# Altium integrated library Zarlink Comm DTMF Receiver.IntLib: 35 symbols
Pins are listed as number, name and electrical type; pins without a type are passive.

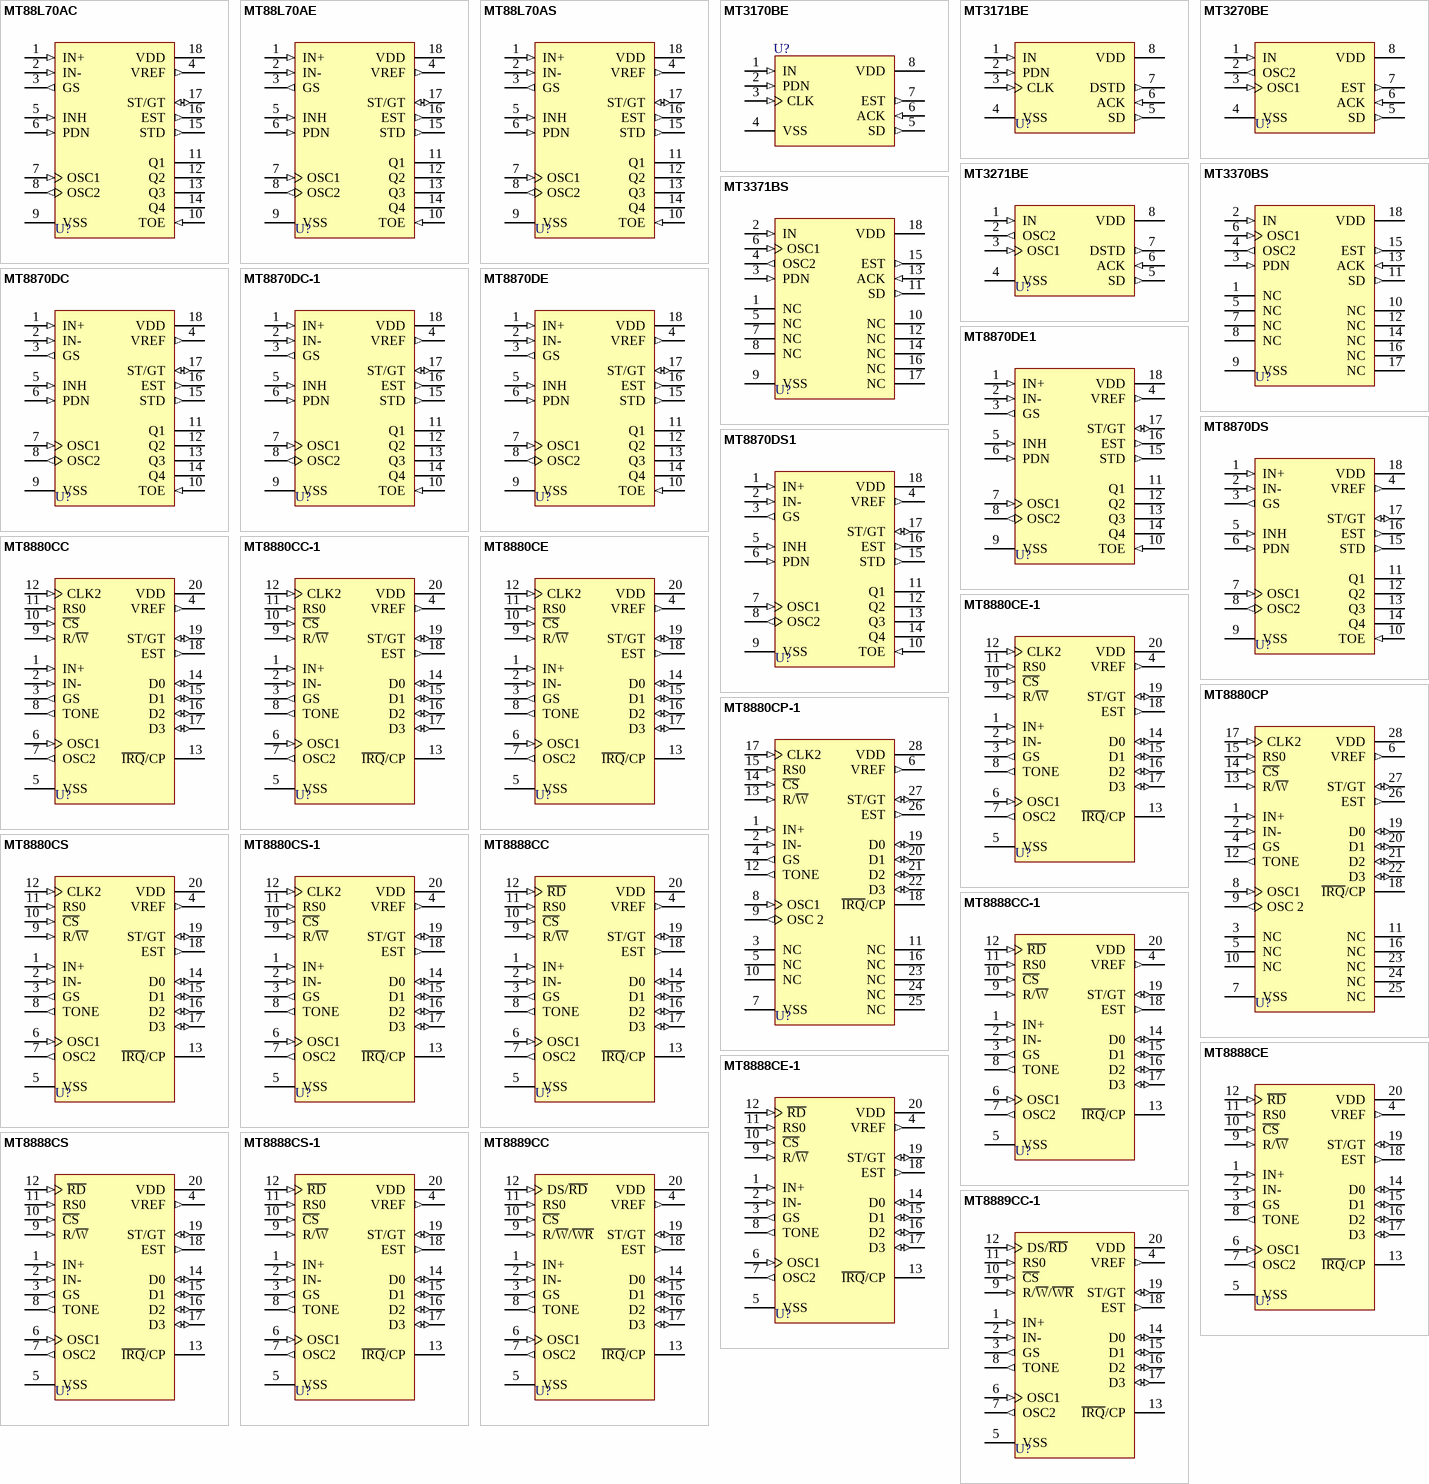
[diagram p0: symbols MT88L70AC to MT8889CC-1]

## MT88L70AC
designator U?
3 Volt Integrated DTMF Receiver; Published: 8-Jun-2000; LatestRevisionDate: 17-Jul-2002; LatestRevisionNote: Re-released for DXP Platform.; DatasheetVersion: Issue 3 August 1996; PackageVersion: 1995; PackageReference: CDIP18; Publisher: Altium Limited; PackageDescription: DIP; 18 Leads; Row Spacing 7.62 mm; Pitch 2.54 mm; ComponentLink1Description: Manufacturer Link; ComponentLink1URL: http://products.zarlink.com; ComponentLink2Description: Datasheet; ComponentLink2URL: http://assets.zarlink.com/DS/zarlink_MT88L70_MAY_05.pdf
footprint CDIP18 (DIP; 18 Leads; Row Spacing 7.62 mm; Pitch 2.54 mm)
pins: 1 IN+ (in), 2 IN- (in), 3 GS (out), 4 VREF (out), 5 INH (in), 6 PDN (in), 7 OSC1 (in), 8 OSC2 (out), 9 VSS (power), 10 TOE (in), 11 Q1 (hiz), 12 Q2 (hiz), 13 Q3 (hiz), 14 Q4 (hiz), 15 STD (out), 16 EST (out), 17 ST/GT (io), 18 VDD (power)

## MT88L70AE
designator U?
3 Volt Integrated DTMF Receiver; Published: 8-Jun-2000; LatestRevisionDate: 17-Jul-2002; LatestRevisionNote: Re-released for DXP Platform.; DatasheetVersion: Issue 4 March 1997; PackageVersion: 1997; PackageReference: PDIP18; Publisher: Altium Limited; PackageDescription: DIP; 18 Leads; Row Spacing 7.62 mm; Pitch 2.54 mm; ComponentLink1Description: Manufacturer Link; ComponentLink1URL: http://products.zarlink.com; ComponentLink2Description: Datasheet; ComponentLink2URL: http://assets.zarlink.com/DS/zarlink_MT88L70_MAY_05.pdf
footprint PDIP18 (DIP; 18 Leads; Row Spacing 7.62 mm; Pitch 2.54 mm)
pins: 1 IN+ (in), 2 IN- (in), 3 GS (out), 4 VREF (out), 5 INH (in), 6 PDN (in), 7 OSC1 (in), 8 OSC2 (out), 9 VSS (power), 10 TOE (in), 11 Q1 (hiz), 12 Q2 (hiz), 13 Q3 (hiz), 14 Q4 (hiz), 15 STD (out), 16 EST (out), 17 ST/GT (io), 18 VDD (power)

## MT88L70AS
designator U?
3 Volt Integrated DTMF Receiver; Published: 8-Jun-2000; LatestRevisionDate: 13-Apr-2006; LatestRevisionNote: IPC-7351 Footprint Added.; DatasheetVersion: Issue 4 March 1997; PackageVersion: 1997; PackageReference: SOIC18; Publisher: Altium Limited; PackageDescription: 18-Pin Small Outline Integrated Circuit 1.27 mm Pitch; Code_JEDEC: MS-013-AB; ComponentLink1Description: Manufacturer Link; ComponentLink1URL: http://products.zarlink.com; ComponentLink2Description: Datasheet; ComponentLink2URL: http://assets.zarlink.com/DS/zarlink_MT88L70_MAY_05.pdf
footprint SOIC18_N (SOIC, 18-Leads, Body 11.6x7.6mm, Pitch 1.27mm, IPC Medium Density)
footprint SOIC18_L (SOIC, 18-Leads, Body 11.6x7.6mm, Pitch 1.27mm, IPC High Density)
footprint SOIC18_M (SOIC, 18-Leads, Body 11.6x7.6mm, Pitch 1.27mm, IPC Low Density)
pins: 1 IN+ (in), 2 IN- (in), 3 GS (out), 4 VREF (out), 5 INH (in), 6 PDN (in), 7 OSC1 (in), 8 OSC2 (out), 9 VSS (power), 10 TOE (in), 11 Q1 (hiz), 12 Q2 (hiz), 13 Q3 (hiz), 14 Q4 (hiz), 15 STD (out), 16 EST (out), 17 ST/GT (io), 18 VDD (power)

## MT3170BE
designator U?
Wide Dynamic Range DTMF Receiver; Published: 8-Jun-2000; LatestRevisionDate: 17-Jul-2002; LatestRevisionNote: Re-released for DXP Platform.; DatasheetVersion: Issue 2 May 1995; PackageVersion: 1997; PackageReference: PDIP8; Publisher: Altium Limited; PackageDescription: DIP; 8 Leads; Row Spacing 7.62 mm; Pitch 2.54 mm; Code_JEDEC: MO-001-AN; ComponentLink1Description: Manufacturer Link; ComponentLink1URL: http://products.zarlink.com; ComponentLink2Description: Datasheet; ComponentLink2URL: http://assets.zarlink.com/DS/zarlink_MT3371B_JUN_05.pdf
footprint PDIP8 (DIP; 8 Leads; Row Spacing 7.62 mm; Pitch 2.54 mm)
pins: 1 IN (in), 2 PDN (in), 3 CLK (in), 4 VSS (power), 5 SD (out), 6 ACK (in), 7 EST (out), 8 VDD (power)

## MT3171BE
designator U?
Wide Dynamic Range DTMF Receiver; Published: 8-Jun-2000; LatestRevisionDate: 17-Jul-2002; LatestRevisionNote: Re-released for DXP Platform.; DatasheetVersion: Issue 2 May 1995; PackageVersion: 1997; PackageReference: PDIP8; Publisher: Altium Limited; PackageDescription: DIP; 8 Leads; Row Spacing 7.62 mm; Pitch 2.54 mm; Code_JEDEC: MO-001-AN; ComponentLink1Description: Manufacturer Link; ComponentLink1URL: http://products.zarlink.com; ComponentLink2Description: Datasheet; ComponentLink2URL: http://assets.zarlink.com/DS/zarlink_MT3371B_JUN_05.pdf
footprint PDIP8 (DIP; 8 Leads; Row Spacing 7.62 mm; Pitch 2.54 mm)
pins: 1 IN (in), 2 PDN (in), 3 CLK (in), 4 VSS (power), 5 SD (out), 6 ACK (in), 7 DSTD (out), 8 VDD (power)

## MT3270BE
designator U?
Wide Dynamic Range DTMF Receiver; Published: 8-Jun-2000; LatestRevisionDate: 17-Jul-2002; LatestRevisionNote: Re-released for DXP Platform.; DatasheetVersion: Issue 2 May 1995; PackageVersion: 1997; PackageReference: PDIP8; Publisher: Altium Limited; PackageDescription: DIP; 8 Leads; Row Spacing 7.62 mm; Pitch 2.54 mm; Code_JEDEC: MO-001-AN; ComponentLink1Description: Manufacturer Link; ComponentLink1URL: http://products.zarlink.com; ComponentLink2Description: Datasheet; ComponentLink2URL: http://assets.zarlink.com/DS/zarlink_MT3270B_JUN_05.pdf
footprint PDIP8 (DIP; 8 Leads; Row Spacing 7.62 mm; Pitch 2.54 mm)
pins: 1 IN (in), 2 OSC2 (out), 3 OSC1 (in), 4 VSS (power), 5 SD (out), 6 ACK (in), 7 EST (out), 8 VDD (power)

## MT3271BE
designator U?
Wide Dynamic Range DTMF Receiver; Published: 8-Jun-2000; LatestRevisionDate: 17-Jul-2002; LatestRevisionNote: Re-released for DXP Platform.; DatasheetVersion: Issue 2 May 1995; PackageVersion: 1997; PackageReference: PDIP8; Publisher: Altium Limited; PackageDescription: DIP; 8 Leads; Row Spacing 7.62 mm; Pitch 2.54 mm; Code_JEDEC: MO-001-AN; ComponentLink1Description: Manufacturer Link; ComponentLink1URL: http://products.zarlink.com; ComponentLink2Description: Datasheet; ComponentLink2URL: http://assets.zarlink.com/DS/zarlink_MT3271B_JUN_05.pdf
footprint PDIP8 (DIP; 8 Leads; Row Spacing 7.62 mm; Pitch 2.54 mm)
pins: 1 IN (in), 2 OSC2 (out), 3 OSC1 (in), 4 VSS (power), 5 SD (out), 6 ACK (in), 7 DSTD (out), 8 VDD (power)

## MT3370BS
designator U?
Wide Dynamic Range DTMF Receiver; Published: 8-Jun-2000; LatestRevisionDate: 13-Apr-2006; LatestRevisionNote: IPC-7351 Footprint Added.; DatasheetVersion: Issue 2 May 1995; PackageVersion: 1997; PackageReference: SOIC18; Publisher: Altium Limited; PackageDescription: 18-Pin Small Outline Integrated Circuit 1.27 mm Pitch; Code_JEDEC: MS-013-AB; ComponentLink1Description: Manufacturer Link; ComponentLink1URL: http://products.zarlink.com; ComponentLink2Description: Datasheet; ComponentLink2URL: http://assets.zarlink.com/DS/zarlink_MT3370B_JUN_05.pdf
footprint SOIC18_N (SOIC, 18-Leads, Body 11.6x7.6mm, Pitch 1.27mm, IPC Medium Density)
footprint SOIC18_L (SOIC, 18-Leads, Body 11.6x7.6mm, Pitch 1.27mm, IPC High Density)
footprint SOIC18_M (SOIC, 18-Leads, Body 11.6x7.6mm, Pitch 1.27mm, IPC Low Density)
pins: 1 NC, 2 IN (in), 3 PDN (in), 4 OSC2 (out), 5 NC, 6 OSC1 (in), 7 NC, 8 NC, 9 VSS (power), 10 NC, 11 SD (out), 12 NC, 13 ACK (in), 14 NC, 15 EST (out), 16 NC, 17 NC, 18 VDD (power)

## MT3371BS
designator U?
Wide Dynamic Range DTMF Receiver; Published: 8-Jun-2000; LatestRevisionDate: 13-Apr-2006; LatestRevisionNote: IPC-7351 Footprint Added.; DatasheetVersion: Issue 2 May 1995; PackageVersion: 1997; PackageReference: SOIC18; Publisher: Altium Limited; PackageDescription: 18-Pin Small Outline Integrated Circuit 1.27 mm Pitch; Code_JEDEC: MS-013-AB; ComponentLink1Description: Manufacturer Link; ComponentLink1URL: http://products.zarlink.com; ComponentLink2Description: Datasheet; ComponentLink2URL: http://assets.zarlink.com/DS/zarlink_MT3371B_JUN_05.pdf
footprint SOIC18_N (SOIC, 18-Leads, Body 11.6x7.6mm, Pitch 1.27mm, IPC Medium Density)
footprint SOIC18_L (SOIC, 18-Leads, Body 11.6x7.6mm, Pitch 1.27mm, IPC High Density)
footprint SOIC18_M (SOIC, 18-Leads, Body 11.6x7.6mm, Pitch 1.27mm, IPC Low Density)
pins: 1 NC, 2 IN (in), 3 PDN (in), 4 OSC2 (out), 5 NC, 6 OSC1 (in), 7 NC, 8 NC, 9 VSS (power), 10 NC, 11 SD (out), 12 NC, 13 ACK (in), 14 NC, 15 EST (out), 16 NC, 17 NC, 18 VDD (power)

## MT8870DC
designator U?
Integrated DTMF Receiver; Published: 8-Jun-2000; LatestRevisionDate: 17-Jul-2002; LatestRevisionNote: Re-released for DXP Platform.; DatasheetVersion: Issue 4 August 1996; PackageVersion: 1995; PackageReference: CDIP18; Publisher: Altium Limited; PackageDescription: DIP; 18 Leads; Row Spacing 7.62 mm; Pitch 2.54 mm; ComponentLink1Description: Manufacturer Link; ComponentLink1URL: http://products.zarlink.com; ComponentLink2Description: Datasheet; ComponentLink2URL: http://assets.zarlink.com/DS/zarlink_MT8870D_MAY_05.pdf
footprint CDIP18 (DIP; 18 Leads; Row Spacing 7.62 mm; Pitch 2.54 mm)
pins: 1 IN+ (in), 2 IN- (in), 3 GS (out), 4 VREF (out), 5 INH (in), 6 PDN (in), 7 OSC1 (in), 8 OSC2 (out), 9 VSS (power), 10 TOE (in), 11 Q1 (hiz), 12 Q2 (hiz), 13 Q3 (hiz), 14 Q4 (hiz), 15 STD (out), 16 EST (out), 17 ST/GT (io), 18 VDD (power)

## MT8870DC-1
designator U?
Integrated DTMF Receiver; Published: 8-Jun-2000; LatestRevisionDate: 17-Jul-2002; LatestRevisionNote: Re-released for DXP Platform.; DatasheetVersion: Issue 4 August 1996; PackageVersion: 1995; PackageReference: CDIP18; Publisher: Altium Limited; PackageDescription: DIP; 18 Leads; Row Spacing 7.62 mm; Pitch 2.54 mm; ComponentLink1Description: Manufacturer Link; ComponentLink1URL: http://products.zarlink.com; ComponentLink2Description: Datasheet; ComponentLink2URL: http://assets.zarlink.com/DS/zarlink_MT8870D_MAY_05.pdf
footprint CDIP18 (DIP; 18 Leads; Row Spacing 7.62 mm; Pitch 2.54 mm)
pins: 1 IN+ (in), 2 IN- (in), 3 GS (out), 4 VREF (out), 5 INH (in), 6 PDN (in), 7 OSC1 (in), 8 OSC2 (out), 9 VSS (power), 10 TOE (in), 11 Q1 (hiz), 12 Q2 (hiz), 13 Q3 (hiz), 14 Q4 (hiz), 15 STD (out), 16 EST (out), 17 ST/GT (io), 18 VDD (power)

## MT8870DE
designator U?
Integrated DTMF Receiver; Published: 8-Jun-2000; LatestRevisionDate: 17-Jul-2002; LatestRevisionNote: Re-released for DXP Platform.; DatasheetVersion: Issue 5 March 1997; PackageVersion: 1997; PackageReference: PDIP18; Publisher: Altium Limited; PackageDescription: DIP; 18 Leads; Row Spacing 7.62 mm; Pitch 2.54 mm; ComponentLink1Description: Manufacturer Link; ComponentLink1URL: http://products.zarlink.com; ComponentLink2Description: Datasheet; ComponentLink2URL: http://assets.zarlink.com/DS/zarlink_MT8870D_MAY_05.pdf
footprint PDIP18 (DIP; 18 Leads; Row Spacing 7.62 mm; Pitch 2.54 mm)
pins: 1 IN+ (in), 2 IN- (in), 3 GS (out), 4 VREF (out), 5 INH (in), 6 PDN (in), 7 OSC1 (in), 8 OSC2 (out), 9 VSS (power), 10 TOE (in), 11 Q1 (hiz), 12 Q2 (hiz), 13 Q3 (hiz), 14 Q4 (hiz), 15 STD (out), 16 EST (out), 17 ST/GT (io), 18 VDD (power)

## MT8870DE1
designator U?
Integrated DTMF Receiver; Published: 8-Jun-2000; LatestRevisionDate: 17-Jul-2002; LatestRevisionNote: Re-released for DXP Platform.; DatasheetVersion: Issue 5 March 1997; PackageVersion: 1997; PackageReference: PDIP18; Publisher: Altium Limited; PackageDescription: DIP; 18 Leads; Row Spacing 7.62 mm; Pitch 2.54 mm; ComponentLink1Description: Manufacturer Link; ComponentLink1URL: http://products.zarlink.com; ComponentLink2Description: Datasheet; ComponentLink2URL: http://assets.zarlink.com/DS/zarlink_MT8870D_MAY_05.pdf
footprint PDIP18 (DIP; 18 Leads; Row Spacing 7.62 mm; Pitch 2.54 mm)
pins: 1 IN+ (in), 2 IN- (in), 3 GS (out), 4 VREF (out), 5 INH (in), 6 PDN (in), 7 OSC1 (in), 8 OSC2 (out), 9 VSS (power), 10 TOE (in), 11 Q1 (hiz), 12 Q2 (hiz), 13 Q3 (hiz), 14 Q4 (hiz), 15 STD (out), 16 EST (out), 17 ST/GT (io), 18 VDD (power)

## MT8870DS
designator U?
Integrated DTMF Receiver; Published: 8-Jun-2000; LatestRevisionDate: 13-Apr-2006; LatestRevisionNote: IPC-7351 Footprint Added.; DatasheetVersion: Issue 5 March 1997; PackageVersion: 1997; PackageReference: SOIC18; Publisher: Altium Limited; PackageDescription: 18-Pin Small Outline Integrated Circuit 1.27 mm Pitch; Code_JEDEC: MS-013-AB; ComponentLink1Description: Manufacturer Link; ComponentLink1URL: http://products.zarlink.com; ComponentLink2Description: Datasheet; ComponentLink2URL: http://assets.zarlink.com/DS/zarlink_MT8870D_MAY_05.pdf
footprint SOIC18_N (SOIC, 18-Leads, Body 11.6x7.6mm, Pitch 1.27mm, IPC Medium Density)
footprint SOIC18_L (SOIC, 18-Leads, Body 11.6x7.6mm, Pitch 1.27mm, IPC High Density)
footprint SOIC18_M (SOIC, 18-Leads, Body 11.6x7.6mm, Pitch 1.27mm, IPC Low Density)
pins: 1 IN+ (in), 2 IN- (in), 3 GS (out), 4 VREF (out), 5 INH (in), 6 PDN (in), 7 OSC1 (in), 8 OSC2 (out), 9 VSS (power), 10 TOE (in), 11 Q1 (hiz), 12 Q2 (hiz), 13 Q3 (hiz), 14 Q4 (hiz), 15 STD (out), 16 EST (out), 17 ST/GT (io), 18 VDD (power)

## MT8870DS1
designator U?
Integrated DTMF Receiver; Published: 8-Jun-2000; LatestRevisionDate: 13-Apr-2006; LatestRevisionNote: IPC-7351 Footprint Added.; DatasheetVersion: Issue 5 March 1997; PackageVersion: 1997; PackageReference: SOIC18; Publisher: Altium Limited; PackageDescription: 18-Pin Small Outline Integrated Circuit 1.27 mm Pitch; Code_JEDEC: MS-013-AB; ComponentLink1Description: Manufacturer Link; ComponentLink1URL: http://products.zarlink.com; ComponentLink2Description: Datasheet; ComponentLink2URL: http://assets.zarlink.com/DS/zarlink_MT8870D_MAY_05.pdf
footprint SOIC18_N (SOIC, 18-Leads, Body 11.6x7.6mm, Pitch 1.27mm, IPC Medium Density)
footprint SOIC18_L (SOIC, 18-Leads, Body 11.6x7.6mm, Pitch 1.27mm, IPC High Density)
footprint SOIC18_M (SOIC, 18-Leads, Body 11.6x7.6mm, Pitch 1.27mm, IPC Low Density)
pins: 1 IN+ (in), 2 IN- (in), 3 GS (out), 4 VREF (out), 5 INH (in), 6 PDN (in), 7 OSC1 (in), 8 OSC2 (out), 9 VSS (power), 10 TOE (in), 11 Q1 (hiz), 12 Q2 (hiz), 13 Q3 (hiz), 14 Q4 (hiz), 15 STD (out), 16 EST (out), 17 ST/GT (io), 18 VDD (power)

## MT8880CC
designator U?
Integrated DTMF Transceiver; Published: 8-Jun-2000; LatestRevisionDate: 17-Jul-2002; LatestRevisionNote: Re-released for DXP Platform.; DatasheetVersion: Issue 3 September 1995; PackageVersion: 1995; PackageReference: CDIP20; Publisher: Altium Limited; PackageDescription: DIP; 20 Leads; Row Spacing 7.62 mm; Pitch 2.54 mm; Code_JEDEC: MS-015-AE; ComponentLink1Description: Manufacturer Link; ComponentLink1URL: http://products.zarlink.com; ComponentLink2Description: Datasheet; ComponentLink2URL: http://assets.zarlink.com/DS/zarlink_MT8880C_MAY_05.pdf
footprint CDIP20 (DIP; 20 Leads; Row Spacing 7.62 mm; Pitch 2.54 mm)
pins: 1 IN+ (in), 2 IN- (in), 3 GS (out), 4 VREF (out), 5 VSS (power), 6 OSC1 (in), 7 OSC2 (out), 8 TONE (out), 9 R/~{W} (in), 10 ~{CS} (in), 11 RS0 (in), 12 CLK2 (in), 13 ~{IRQ}/CP (oc), 14 D0 (io), 15 D1 (io), 16 D2 (io), 17 D3 (io), 18 EST (out), 19 ST/GT (io), 20 VDD (power)

## MT8880CC-1
designator U?
Integrated DTMF Transceiver; Published: 8-Jun-2000; LatestRevisionDate: 17-Jul-2002; LatestRevisionNote: Re-released for DXP Platform.; DatasheetVersion: Issue 3 September 1995; PackageVersion: 1995; PackageReference: CDIP20; Publisher: Altium Limited; PackageDescription: DIP; 20 Leads; Row Spacing 7.62 mm; Pitch 2.54 mm; Code_JEDEC: MS-015-AE; ComponentLink1Description: Manufacturer Link; ComponentLink1URL: http://products.zarlink.com; ComponentLink2Description: Datasheet; ComponentLink2URL: http://assets.zarlink.com/DS/zarlink_MT8880C_MAY_05.pdf
footprint CDIP20 (DIP; 20 Leads; Row Spacing 7.62 mm; Pitch 2.54 mm)
pins: 1 IN+ (in), 2 IN- (in), 3 GS (out), 4 VREF (out), 5 VSS (power), 6 OSC1 (in), 7 OSC2 (out), 8 TONE (out), 9 R/~{W} (in), 10 ~{CS} (in), 11 RS0 (in), 12 CLK2 (in), 13 ~{IRQ}/CP (oc), 14 D0 (io), 15 D1 (io), 16 D2 (io), 17 D3 (io), 18 EST (out), 19 ST/GT (io), 20 VDD (power)

## MT8880CE
designator U?
Integrated DTMF Transceiver; Published: 8-Jun-2000; LatestRevisionDate: 17-Jul-2002; LatestRevisionNote: Re-released for DXP Platform.; DatasheetVersion: Issue 6 March 1997; PackageVersion: 1997; PackageReference: PDIP20; Publisher: Altium Limited; PackageDescription: DIP; 20 Leads; Row Spacing 7.62 mm; Pitch 2.54 mm; Code_JEDEC: MS-001-AD; ComponentLink1Description: Manufacturer Link; ComponentLink1URL: http://products.zarlink.com; ComponentLink2Description: Datasheet; ComponentLink2URL: http://assets.zarlink.com/DS/zarlink_MT8880C_MAY_05.pdf
footprint PDIP20 (DIP; 20 Leads; Row Spacing 7.62 mm; Pitch 2.54 mm)
pins: 1 IN+ (in), 2 IN- (in), 3 GS (out), 4 VREF (out), 5 VSS (power), 6 OSC1 (in), 7 OSC2 (out), 8 TONE (out), 9 R/~{W} (in), 10 ~{CS} (in), 11 RS0 (in), 12 CLK2 (in), 13 ~{IRQ}/CP (oc), 14 D0 (io), 15 D1 (io), 16 D2 (io), 17 D3 (io), 18 EST (out), 19 ST/GT (io), 20 VDD (power)

## MT8880CE-1
designator U?
Integrated DTMF Transceiver; Published: 8-Jun-2000; LatestRevisionDate: 17-Jul-2002; LatestRevisionNote: Re-released for DXP Platform.; DatasheetVersion: Issue 3 September 1995; PackageVersion: 1997; PackageReference: PDIP20; Publisher: Altium Limited; PackageDescription: DIP; 20 Leads; Row Spacing 7.62 mm; Pitch 2.54 mm; Code_JEDEC: MS-001-AD; ComponentLink1Description: Manufacturer Link; ComponentLink1URL: http://products.zarlink.com; ComponentLink2Description: Datasheet; ComponentLink2URL: http://assets.zarlink.com/DS/zarlink_MT8880C_MAY_05.pdf
footprint PDIP20 (DIP; 20 Leads; Row Spacing 7.62 mm; Pitch 2.54 mm)
pins: 1 IN+ (in), 2 IN- (in), 3 GS (out), 4 VREF (out), 5 VSS (power), 6 OSC1 (in), 7 OSC2 (out), 8 TONE (out), 9 R/~{W} (in), 10 ~{CS} (in), 11 RS0 (in), 12 CLK2 (in), 13 ~{IRQ}/CP (oc), 14 D0 (io), 15 D1 (io), 16 D2 (io), 17 D3 (io), 18 EST (out), 19 ST/GT (io), 20 VDD (power)

## MT8880CP
designator U?
Integrated DTMF Transceiver; Published: 8-Jun-2000; LatestRevisionDate: 13-Apr-2006; LatestRevisionNote: IPC-7351 Footprint Added.; DatasheetVersion: Issue 6 March 1997; PackageVersion: 1997; PackageReference: PLCC28; Publisher: Altium Limited; PackageDescription: 28-Pin Leaded Chip Carrier 1.27 mm Pitch; Code_IPC: PLCC-28; ComponentLink1Description: Manufacturer Link; ComponentLink1URL: http://products.zarlink.com; ComponentLink2Description: Datasheet; ComponentLink2URL: http://assets.zarlink.com/DS/zarlink_MT8880C_MAY_05.pdf
footprint PLCC28_N (Leaded Chip Carrier, 28-Leads, Body 11.5x11.5mm, Pitch 1.27mm, IPC Medium Density)
footprint PLCC28_L (Leaded Chip Carrier, 28-Leads, Body 11.5x11.5mm, Pitch 1.27mm, IPC High Density)
footprint PLCC28_M (Leaded Chip Carrier, 28-Leads, Body 11.5x11.5mm, Pitch 1.27mm, IPC Low Density)
pins: 1 IN+ (in), 2 IN- (in), 3 NC, 4 GS (out), 5 NC, 6 VREF (out), 7 VSS (power), 8 OSC1 (in), 9 OSC 2 (out), 10 NC, 11 NC, 12 TONE (out), 13 R/~{W} (in), 14 ~{CS} (in), 15 RS0 (in), 16 NC, 17 CLK2 (in), 18 ~{IRQ}/CP (oc), 19 D0 (io), 20 D1 (io), 21 D2 (io), 22 D3 (io), 23 NC, 24 NC, 25 NC, 26 EST (out), 27 ST/GT (io), 28 VDD (power)

## MT8880CP-1
designator U?
Integrated DTMF Transceiver; Published: 8-Jun-2000; LatestRevisionDate: 13-Apr-2006; LatestRevisionNote: IPC-7351 Footprint Added.; DatasheetVersion: Issue 3 September 1995; PackageVersion: 1997; PackageReference: PLCC28; Publisher: Altium Limited; PackageDescription: 28-Pin Leaded Chip Carrier 1.27 mm Pitch; Code_IPC: PLCC-28; ComponentLink1Description: Manufacturer Link; ComponentLink1URL: http://products.zarlink.com; ComponentLink2Description: Datasheet; ComponentLink2URL: http://assets.zarlink.com/DS/zarlink_MT8880C_MAY_05.pdf
footprint PLCC28_N (Leaded Chip Carrier, 28-Leads, Body 11.5x11.5mm, Pitch 1.27mm, IPC Medium Density)
footprint PLCC28_L (Leaded Chip Carrier, 28-Leads, Body 11.5x11.5mm, Pitch 1.27mm, IPC High Density)
footprint PLCC28_M (Leaded Chip Carrier, 28-Leads, Body 11.5x11.5mm, Pitch 1.27mm, IPC Low Density)
pins: 1 IN+ (in), 2 IN- (in), 3 NC, 4 GS (out), 5 NC, 6 VREF (out), 7 VSS (power), 8 OSC1 (in), 9 OSC 2 (out), 10 NC, 11 NC, 12 TONE (out), 13 R/~{W} (in), 14 ~{CS} (in), 15 RS0 (in), 16 NC, 17 CLK2 (in), 18 ~{IRQ}/CP (oc), 19 D0 (io), 20 D1 (io), 21 D2 (io), 22 D3 (io), 23 NC, 24 NC, 25 NC, 26 EST (out), 27 ST/GT (io), 28 VDD (power)

## MT8880CS
designator U?
Integrated DTMF Transceiver; Published: 8-Jun-2000; LatestRevisionDate: 13-Apr-2006; LatestRevisionNote: IPC-7351 Footprint Added.; DatasheetVersion: Issue 6 March 1997; PackageVersion: 1997; PackageReference: SOIC20; Publisher: Altium Limited; PackageDescription: 20-Pin Small Outline Integrated Circuit 1.27 mm Pitch; Code_JEDEC: MS-013-AC; Code_IPC: SOIC127P1030-20; ComponentLink1Description: Manufacturer Link; ComponentLink1URL: http://products.zarlink.com; ComponentLink2Description: Datasheet; ComponentLink2URL: http://assets.zarlink.com/DS/zarlink_MT8880C_MAY_05.pdf
footprint SOIC20_N (SOIC, 20-Leads, Body 12.8x7.6mm, Pitch 1.27mm, IPC Medium Density)
footprint SOIC20_L (SOIC, 20-Leads, Body 12.8x7.6mm, Pitch 1.27mm, IPC High Density)
footprint SOIC20_M (SOIC, 20-Leads, Body 12.8x7.6mm, Pitch 1.27mm, IPC Low Density)
pins: 1 IN+ (in), 2 IN- (in), 3 GS (out), 4 VREF (out), 5 VSS (power), 6 OSC1 (in), 7 OSC2 (out), 8 TONE (out), 9 R/~{W} (in), 10 ~{CS} (in), 11 RS0 (in), 12 CLK2 (in), 13 ~{IRQ}/CP (oc), 14 D0 (io), 15 D1 (io), 16 D2 (io), 17 D3 (io), 18 EST (out), 19 ST/GT (io), 20 VDD (power)

## MT8880CS-1
designator U?
Integrated DTMF Transceiver; Published: 8-Jun-2000; LatestRevisionDate: 13-Apr-2006; LatestRevisionNote: IPC-7351 Footprint Added.; DatasheetVersion: Issue 3 September 1995; PackageVersion: 1997; PackageReference: SOIC20; Publisher: Altium Limited; PackageDescription: 20-Pin Small Outline Integrated Circuit 1.27 mm Pitch; Code_JEDEC: MS-013-AC; Code_IPC: SOIC127P1030-20; ComponentLink1Description: Manufacturer Link; ComponentLink1URL: http://products.zarlink.com; ComponentLink2Description: Datasheet; ComponentLink2URL: http://assets.zarlink.com/DS/zarlink_MT8880C_MAY_05.pdf
footprint SOIC20_N (SOIC, 20-Leads, Body 12.8x7.6mm, Pitch 1.27mm, IPC Medium Density)
footprint SOIC20_L (SOIC, 20-Leads, Body 12.8x7.6mm, Pitch 1.27mm, IPC High Density)
footprint SOIC20_M (SOIC, 20-Leads, Body 12.8x7.6mm, Pitch 1.27mm, IPC Low Density)
pins: 1 IN+ (in), 2 IN- (in), 3 GS (out), 4 VREF (out), 5 VSS (power), 6 OSC1 (in), 7 OSC2 (out), 8 TONE (out), 9 R/~{W} (in), 10 ~{CS} (in), 11 RS0 (in), 12 CLK2 (in), 13 ~{IRQ}/CP (oc), 14 D0 (io), 15 D1 (io), 16 D2 (io), 17 D3 (io), 18 EST (out), 19 ST/GT (io), 20 VDD (power)

## MT8888CC
designator U?
Integrated DTMF Transceiver with Intel Micro Interface; Published: 8-Jun-2000; LatestRevisionDate: 17-Jul-2002; LatestRevisionNote: Re-released for DXP Platform.; DatasheetVersion: Issue 3 September 1995; PackageVersion: 1995; PackageReference: CDIP20; Publisher: Altium Limited; PackageDescription: DIP; 20 Leads; Row Spacing 7.62 mm; Pitch 2.54 mm; Code_JEDEC: MS-015-AE; ComponentLink1Description: Manufacturer Link; ComponentLink1URL: http://products.zarlink.com; ComponentLink2Description: Datasheet; ComponentLink2URL: http://assets.zarlink.com/DS/zarlink_MT8888C_JUN_05.pdf
footprint CDIP20 (DIP; 20 Leads; Row Spacing 7.62 mm; Pitch 2.54 mm)
pins: 1 IN+ (in), 2 IN- (in), 3 GS (out), 4 VREF (out), 5 VSS (power), 6 OSC1 (in), 7 OSC2 (out), 8 TONE (out), 9 R/~{W} (in), 10 ~{CS} (in), 11 RS0 (in), 12 ~{RD} (in), 13 ~{IRQ}/CP (oc), 14 D0 (io), 15 D1 (io), 16 D2 (io), 17 D3 (io), 18 EST (out), 19 ST/GT (io), 20 VDD (power)

## MT8888CC-1
designator U?
Integrated DTMF Transceiver with Intel Micro Interface; Published: 8-Jun-2000; LatestRevisionDate: 17-Jul-2002; LatestRevisionNote: Re-released for DXP Platform.; DatasheetVersion: Issue 3 September 1995; PackageVersion: 1995; PackageReference: CDIP20; Publisher: Altium Limited; PackageDescription: DIP; 20 Leads; Row Spacing 7.62 mm; Pitch 2.54 mm; Code_JEDEC: MS-015-AE; ComponentLink1Description: Manufacturer Link; ComponentLink1URL: http://products.zarlink.com; ComponentLink2Description: Datasheet; ComponentLink2URL: http://assets.zarlink.com/DS/zarlink_MT8888C_JUN_05.pdf
footprint CDIP20 (DIP; 20 Leads; Row Spacing 7.62 mm; Pitch 2.54 mm)
pins: 1 IN+ (in), 2 IN- (in), 3 GS (out), 4 VREF (out), 5 VSS (power), 6 OSC1 (in), 7 OSC2 (out), 8 TONE (out), 9 R/~{W} (in), 10 ~{CS} (in), 11 RS0 (in), 12 ~{RD} (in), 13 ~{IRQ}/CP (oc), 14 D0 (io), 15 D1 (io), 16 D2 (io), 17 D3 (io), 18 EST (out), 19 ST/GT (io), 20 VDD (power)

## MT8888CE
designator U?
Integrated DTMF Transceiver with Intel Micro Interface; Published: 8-Jun-2000; LatestRevisionDate: 17-Jul-2002; LatestRevisionNote: Re-released for DXP Platform.; DatasheetVersion: Issue 6 March 1997; PackageVersion: 1997; PackageReference: PDIP20; Publisher: Altium Limited; PackageDescription: DIP; 20 Leads; Row Spacing 7.62 mm; Pitch 2.54 mm; Code_JEDEC: MS-001-AD; ComponentLink1Description: Manufacturer Link; ComponentLink1URL: http://products.zarlink.com; ComponentLink2Description: Datasheet; ComponentLink2URL: http://assets.zarlink.com/DS/zarlink_MT8888C_JUN_05.pdf
footprint PDIP20 (DIP; 20 Leads; Row Spacing 7.62 mm; Pitch 2.54 mm)
pins: 1 IN+ (in), 2 IN- (in), 3 GS (out), 4 VREF (out), 5 VSS (power), 6 OSC1 (in), 7 OSC2 (out), 8 TONE (out), 9 R/~{W} (in), 10 ~{CS} (in), 11 RS0 (in), 12 ~{RD} (in), 13 ~{IRQ}/CP (oc), 14 D0 (io), 15 D1 (io), 16 D2 (io), 17 D3 (io), 18 EST (out), 19 ST/GT (io), 20 VDD (power)

## MT8888CE-1
designator U?
Integrated DTMF Transceiver with Intel Micro Interface; Published: 8-Jun-2000; LatestRevisionDate: 17-Jul-2002; LatestRevisionNote: Re-released for DXP Platform.; DatasheetVersion: Issue 3 September 1995; PackageVersion: 1997; PackageReference: PDIP20; Publisher: Altium Limited; PackageDescription: DIP; 20 Leads; Row Spacing 7.62 mm; Pitch 2.54 mm; Code_JEDEC: MS-001-AD; ComponentLink1Description: Manufacturer Link; ComponentLink1URL: http://products.zarlink.com; ComponentLink2Description: Datasheet; ComponentLink2URL: http://assets.zarlink.com/DS/zarlink_MT8888C_JUN_05.pdf
footprint PDIP20 (DIP; 20 Leads; Row Spacing 7.62 mm; Pitch 2.54 mm)
pins: 1 IN+ (in), 2 IN- (in), 3 GS (out), 4 VREF (out), 5 VSS (power), 6 OSC1 (in), 7 OSC2 (out), 8 TONE (out), 9 R/~{W} (in), 10 ~{CS} (in), 11 RS0 (in), 12 ~{RD} (in), 13 ~{IRQ}/CP (oc), 14 D0 (io), 15 D1 (io), 16 D2 (io), 17 D3 (io), 18 EST (out), 19 ST/GT (io), 20 VDD (power)

## MT8888CS
designator U?
Integrated DTMF Transceiver with Intel Micro Interface; Published: 8-Jun-2000; LatestRevisionDate: 13-Apr-2006; LatestRevisionNote: IPC-7351 Footprint Added.; DatasheetVersion: Issue 6 March 1997; PackageVersion: 1997; PackageReference: SOIC20; Publisher: Altium Limited; PackageDescription: 20-Pin Small Outline Integrated Circuit 1.27 mm Pitch; Code_JEDEC: MS-013-AC; Code_IPC: SOIC127P1030-20; ComponentLink1Description: Manufacturer Link; ComponentLink1URL: http://products.zarlink.com; ComponentLink2Description: Datasheet; ComponentLink2URL: http://assets.zarlink.com/DS/zarlink_MT8888C_JUN_05.pdf
footprint SOIC20_N (SOIC, 20-Leads, Body 12.8x7.6mm, Pitch 1.27mm, IPC Medium Density)
footprint SOIC20_L (SOIC, 20-Leads, Body 12.8x7.6mm, Pitch 1.27mm, IPC High Density)
footprint SOIC20_M (SOIC, 20-Leads, Body 12.8x7.6mm, Pitch 1.27mm, IPC Low Density)
pins: 1 IN+ (in), 2 IN- (in), 3 GS (out), 4 VREF (out), 5 VSS (power), 6 OSC1 (in), 7 OSC2 (out), 8 TONE (out), 9 R/~{W} (in), 10 ~{CS} (in), 11 RS0 (in), 12 ~{RD} (in), 13 ~{IRQ}/CP (oc), 14 D0 (io), 15 D1 (io), 16 D2 (io), 17 D3 (io), 18 EST (out), 19 ST/GT (io), 20 VDD (power)

## MT8888CS-1
designator U?
Integrated DTMF Transceiver with Intel Micro Interface; Published: 8-Jun-2000; LatestRevisionDate: 13-Apr-2006; LatestRevisionNote: IPC-7351 Footprint Added.; DatasheetVersion: Issue 3 September 1995; PackageVersion: 1997; PackageReference: SOIC20; Publisher: Altium Limited; PackageDescription: 20-Pin Small Outline Integrated Circuit 1.27 mm Pitch; Code_JEDEC: MS-013-AC; Code_IPC: SOIC127P1030-20; ComponentLink1Description: Manufacturer Link; ComponentLink1URL: http://products.zarlink.com; ComponentLink2Description: Datasheet; ComponentLink2URL: http://assets.zarlink.com/DS/zarlink_MT8888C_JUN_05.pdf
footprint SOIC20_N (SOIC, 20-Leads, Body 12.8x7.6mm, Pitch 1.27mm, IPC Medium Density)
footprint SOIC20_L (SOIC, 20-Leads, Body 12.8x7.6mm, Pitch 1.27mm, IPC High Density)
footprint SOIC20_M (SOIC, 20-Leads, Body 12.8x7.6mm, Pitch 1.27mm, IPC Low Density)
pins: 1 IN+ (in), 2 IN- (in), 3 GS (out), 4 VREF (out), 5 VSS (power), 6 OSC1 (in), 7 OSC2 (out), 8 TONE (out), 9 R/~{W} (in), 10 ~{CS} (in), 11 RS0 (in), 12 ~{RD} (in), 13 ~{IRQ}/CP (oc), 14 D0 (io), 15 D1 (io), 16 D2 (io), 17 D3 (io), 18 EST (out), 19 ST/GT (io), 20 VDD (power)

## MT8889CC
designator U?
Integrated DTMF Transceiver With Adaptive Micro Interface; Published: 8-Jun-2000; LatestRevisionDate: 17-Jul-2002; LatestRevisionNote: Re-released for DXP Platform.; DatasheetVersion: Issue 2 May 1995; PackageVersion: 1995; PackageReference: CDIP20; Publisher: Altium Limited; PackageDescription: DIP; 20 Leads; Row Spacing 7.62 mm; Pitch 2.54 mm; Code_JEDEC: MS-015-AE; ComponentLink1Description: Manufacturer Link; ComponentLink1URL: http://products.zarlink.com; ComponentLink2Description: Datasheet; ComponentLink2URL: http://assets.zarlink.com/DS/zarlink_MT8889C_MAY_05.pdf
footprint CDIP20 (DIP; 20 Leads; Row Spacing 7.62 mm; Pitch 2.54 mm)
pins: 1 IN+ (in), 2 IN- (in), 3 GS (out), 4 VREF (out), 5 VSS (power), 6 OSC1 (in), 7 OSC2 (out), 8 TONE (out), 9 R/~{W}/~{WR} (in), 10 ~{CS} (in), 11 RS0 (in), 12 DS/~{RD} (in), 13 ~{IRQ}/CP (oc), 14 D0 (io), 15 D1 (io), 16 D2 (io), 17 D3 (io), 18 EST (out), 19 ST/GT (io), 20 VDD (power)

## MT8889CC-1
designator U?
Integrated DTMF Transceiver With Adaptive Micro Interface; Published: 8-Jun-2000; LatestRevisionDate: 17-Jul-2002; LatestRevisionNote: Re-released for DXP Platform.; DatasheetVersion: Issue 2 May 1995; PackageVersion: 1995; PackageReference: CDIP20; Publisher: Altium Limited; PackageDescription: DIP; 20 Leads; Row Spacing 7.62 mm; Pitch 2.54 mm; Code_JEDEC: MS-015-AE; ComponentLink1Description: Manufacturer Link; ComponentLink1URL: http://products.zarlink.com; ComponentLink2Description: Datasheet; ComponentLink2URL: http://assets.zarlink.com/DS/zarlink_MT8889C_MAY_05.pdf
footprint CDIP20 (DIP; 20 Leads; Row Spacing 7.62 mm; Pitch 2.54 mm)
pins: 1 IN+ (in), 2 IN- (in), 3 GS (out), 4 VREF (out), 5 VSS (power), 6 OSC1 (in), 7 OSC2 (out), 8 TONE (out), 9 R/~{W}/~{WR} (in), 10 ~{CS} (in), 11 RS0 (in), 12 DS/~{RD} (in), 13 ~{IRQ}/CP (oc), 14 D0 (io), 15 D1 (io), 16 D2 (io), 17 D3 (io), 18 EST (out), 19 ST/GT (io), 20 VDD (power)

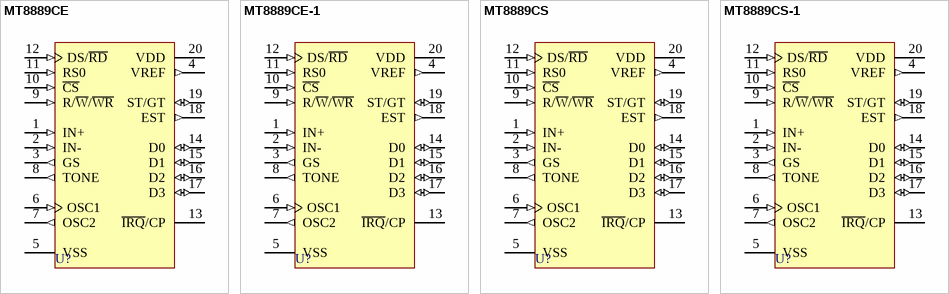
[diagram p1: symbols MT8889CE to MT8889CS-1]

## MT8889CE
designator U?
Integrated DTMF Transceiver With Adaptive Micro Interface; Published: 8-Jun-2000; LatestRevisionDate: 17-Jul-2002; LatestRevisionNote: Re-released for DXP Platform.; DatasheetVersion: Issue 6 March 1997; PackageVersion: 1997; PackageReference: PDIP20; Publisher: Altium Limited; PackageDescription: DIP; 20 Leads; Row Spacing 7.62 mm; Pitch 2.54 mm; Code_JEDEC: MS-001-AD; ComponentLink1Description: Manufacturer Link; ComponentLink1URL: http://products.zarlink.com; ComponentLink2Description: Datasheet; ComponentLink2URL: http://assets.zarlink.com/DS/zarlink_MT8889C_MAY_05.pdf
footprint PDIP20 (DIP; 20 Leads; Row Spacing 7.62 mm; Pitch 2.54 mm)
pins: 1 IN+ (in), 2 IN- (in), 3 GS (out), 4 VREF (out), 5 VSS (power), 6 OSC1 (in), 7 OSC2 (out), 8 TONE (out), 9 R/~{W}/~{WR} (in), 10 ~{CS} (in), 11 RS0 (in), 12 DS/~{RD} (in), 13 ~{IRQ}/CP (oc), 14 D0 (io), 15 D1 (io), 16 D2 (io), 17 D3 (io), 18 EST (out), 19 ST/GT (io), 20 VDD (power)

## MT8889CE-1
designator U?
Integrated DTMF Transceiver With Adaptive Micro Interface; Published: 8-Jun-2000; LatestRevisionDate: 17-Jul-2002; LatestRevisionNote: Re-released for DXP Platform.; DatasheetVersion: Issue 2 May 1995; PackageVersion: 1997; PackageReference: PDIP20; Publisher: Altium Limited; PackageDescription: DIP; 20 Leads; Row Spacing 7.62 mm; Pitch 2.54 mm; Code_JEDEC: MS-001-AD; ComponentLink1Description: Manufacturer Link; ComponentLink1URL: http://products.zarlink.com; ComponentLink2Description: Datasheet; ComponentLink2URL: http://assets.zarlink.com/DS/zarlink_MT8889C_MAY_05.pdf
footprint PDIP20 (DIP; 20 Leads; Row Spacing 7.62 mm; Pitch 2.54 mm)
pins: 1 IN+ (in), 2 IN- (in), 3 GS (out), 4 VREF (out), 5 VSS (power), 6 OSC1 (in), 7 OSC2 (out), 8 TONE (out), 9 R/~{W}/~{WR} (in), 10 ~{CS} (in), 11 RS0 (in), 12 DS/~{RD} (in), 13 ~{IRQ}/CP (oc), 14 D0 (io), 15 D1 (io), 16 D2 (io), 17 D3 (io), 18 EST (out), 19 ST/GT (io), 20 VDD (power)

## MT8889CS
designator U?
Integrated DTMF Transceiver With Adaptive Micro Interface; Published: 8-Jun-2000; LatestRevisionDate: 13-Apr-2006; LatestRevisionNote: IPC-7351 Footprint Added.; DatasheetVersion: Issue 6 March 1997; PackageVersion: 1997; PackageReference: SOIC20; Publisher: Altium Limited; PackageDescription: 20-Pin Small Outline Integrated Circuit 1.27 mm Pitch; Code_JEDEC: MS-013-AC; Code_IPC: SOIC127P1030-20; ComponentLink1Description: Manufacturer Link; ComponentLink1URL: http://products.zarlink.com; ComponentLink2Description: Datasheet; ComponentLink2URL: http://assets.zarlink.com/DS/zarlink_MT8889C_MAY_05.pdf
footprint SOIC20_N (SOIC, 20-Leads, Body 12.8x7.6mm, Pitch 1.27mm, IPC Medium Density)
footprint SOIC20_L (SOIC, 20-Leads, Body 12.8x7.6mm, Pitch 1.27mm, IPC High Density)
footprint SOIC20_M (SOIC, 20-Leads, Body 12.8x7.6mm, Pitch 1.27mm, IPC Low Density)
pins: 1 IN+ (in), 2 IN- (in), 3 GS (out), 4 VREF (out), 5 VSS (power), 6 OSC1 (in), 7 OSC2 (out), 8 TONE (out), 9 R/~{W}/~{WR} (in), 10 ~{CS} (in), 11 RS0 (in), 12 DS/~{RD} (in), 13 ~{IRQ}/CP (oc), 14 D0 (io), 15 D1 (io), 16 D2 (io), 17 D3 (io), 18 EST (out), 19 ST/GT (io), 20 VDD (power)

## MT8889CS-1
designator U?
Integrated DTMF Transceiver With Adaptive Micro Interface; Published: 8-Jun-2000; LatestRevisionDate: 13-Apr-2006; LatestRevisionNote: IPC-7351 Footprint Added.; DatasheetVersion: Issue 2 May 1995; PackageVersion: 1997; PackageReference: SOIC20; Publisher: Altium Limited; PackageDescription: 20-Pin Small Outline Integrated Circuit 1.27 mm Pitch; Code_JEDEC: MS-013-AC; Code_IPC: SOIC127P1030-20; ComponentLink1Description: Manufacturer Link; ComponentLink1URL: http://products.zarlink.com; ComponentLink2Description: Datasheet; ComponentLink2URL: http://assets.zarlink.com/DS/zarlink_MT8889C_MAY_05.pdf
footprint SOIC20_N (SOIC, 20-Leads, Body 12.8x7.6mm, Pitch 1.27mm, IPC Medium Density)
footprint SOIC20_L (SOIC, 20-Leads, Body 12.8x7.6mm, Pitch 1.27mm, IPC High Density)
footprint SOIC20_M (SOIC, 20-Leads, Body 12.8x7.6mm, Pitch 1.27mm, IPC Low Density)
pins: 1 IN+ (in), 2 IN- (in), 3 GS (out), 4 VREF (out), 5 VSS (power), 6 OSC1 (in), 7 OSC2 (out), 8 TONE (out), 9 R/~{W}/~{WR} (in), 10 ~{CS} (in), 11 RS0 (in), 12 DS/~{RD} (in), 13 ~{IRQ}/CP (oc), 14 D0 (io), 15 D1 (io), 16 D2 (io), 17 D3 (io), 18 EST (out), 19 ST/GT (io), 20 VDD (power)